# Altium schematic symbol library WR-PHD_Pin Header_1.27mm.SchLib: 31 symbols
Pins are listed as number, name and electrical type; pins without a type are passive.

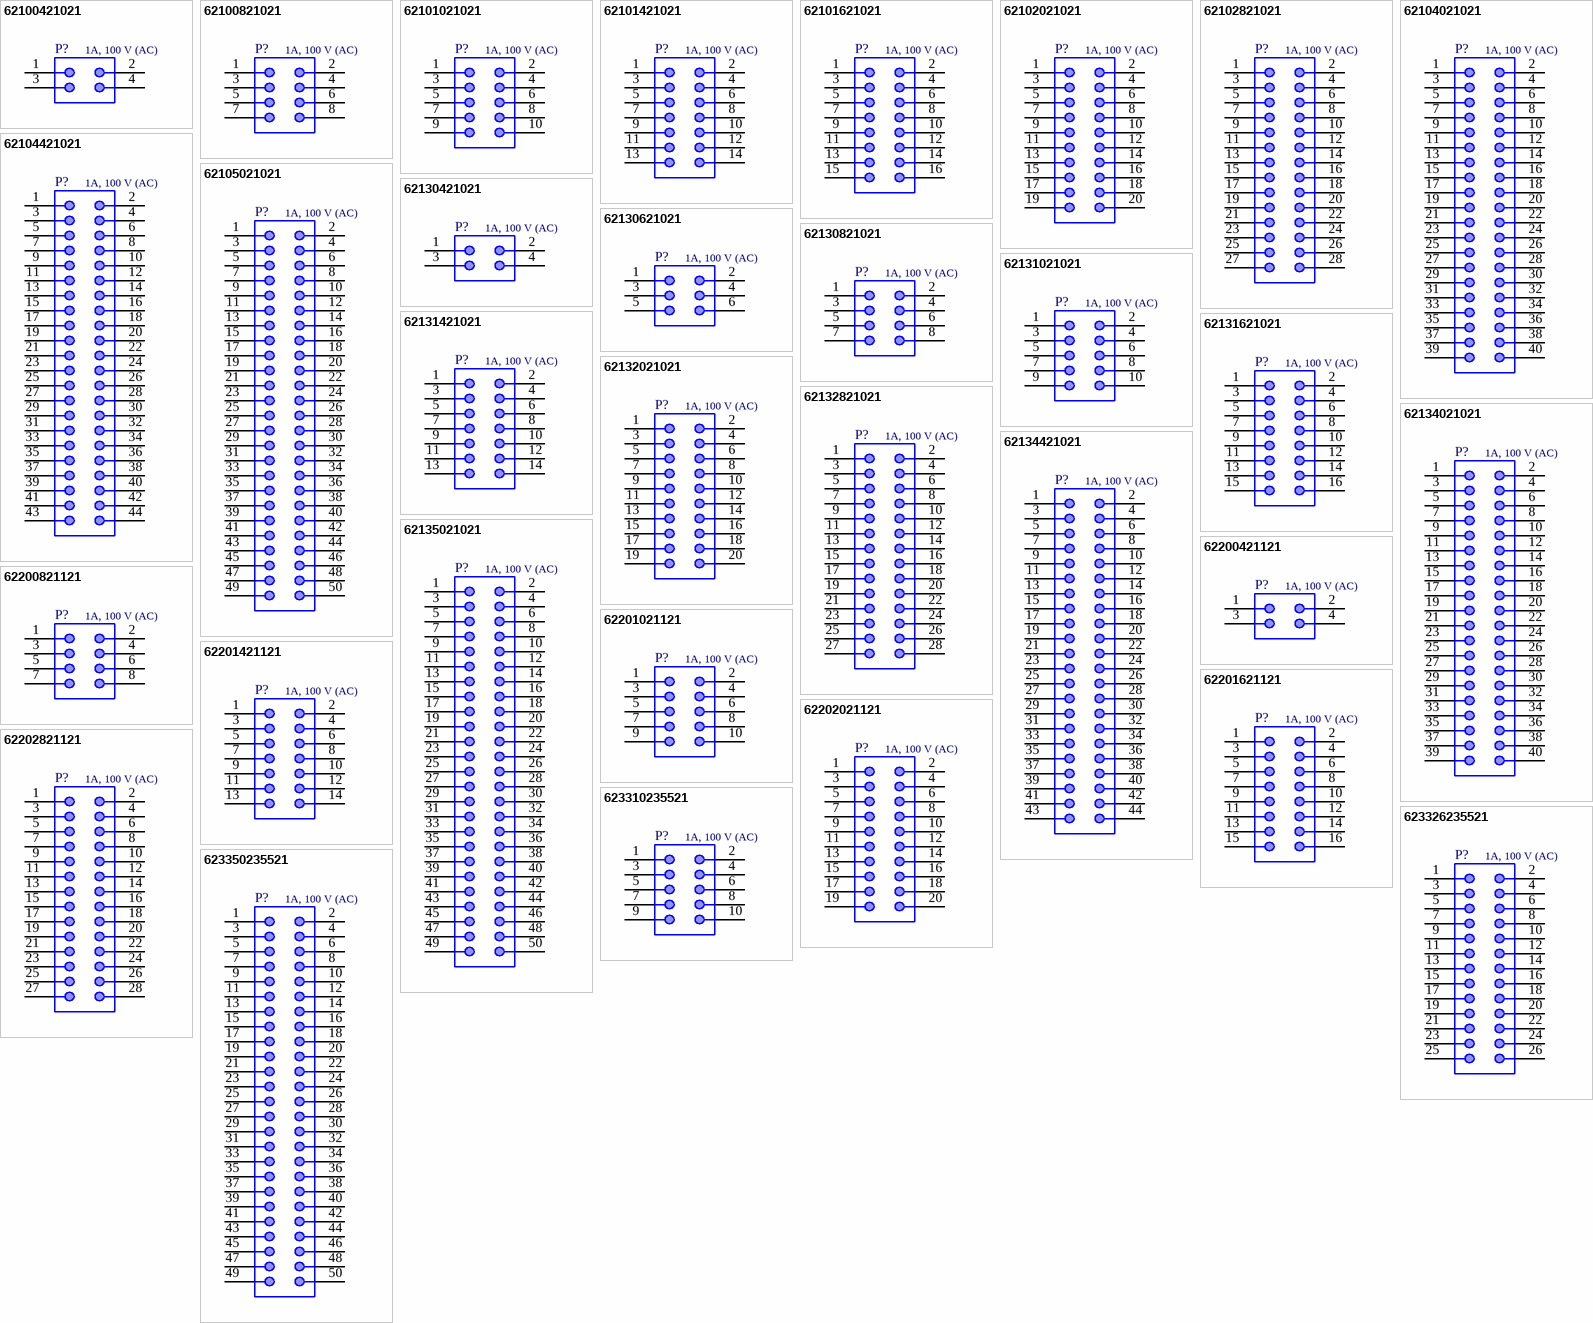
[diagram p0: symbols 62100421021 to 623350235521]

## 62100421021
designator P?, comment 1A, 100 V (AC)
WR-PHD Pin Header, SMT, pitch 1.27mm, Dual Row, Vertical, 4p; Manufacturer Part Number: 62100421021; Manufacturer: Wurth Elektronik; Pin Number: 4; Working Voltage: 100VAC; Withstanding Voltage: 500VAC; Contact Resistance: 20mOhm; ComponentLink1Description: Datasheet; ComponentLink1URL: https://www.we-online.com/catalog/datasheet/62100421021.pdf; Published Date: May 2020; Pitch: 1.27mm; Packaging: Tube; Gender: Pin Header; Rated Current: 1A; Row Number: Dual; Orientation: Vertical; Supplier 1 URL: N/A; Supplier 2 URL: N/A; Supplier 3 URL: N/A; LCSC Part #: N/A; Mount: SMD/SMT; Operating Temperature Max: + 105 C; Operating Temperature Min: - 40 C; Supplier 1: Mouser; Supplier 1 Part Number: N/A; Supplier 2: Digi-Key; Supplier 2 Part Number: N/A; Supplier 3: thegioiic; Supplier 3 Part Number: N/A; Value: 1A, 100 V (AC)
footprint 62100421021
pins: 1, 2, 3, 4

## 62100821021
designator P?, comment 1A, 100 V (AC)
WR-PHD Pin Header, SMT, pitch 1.27mm, Dual Row, Vertical, 8p; Manufacturer Part Number: 62100821021; Manufacturer: Wurth Elektronik; Pin Number: 8; Working Voltage: 100VAC; Withstanding Voltage: 500VAC; Contact Resistance: 20mOhm; ComponentLink1Description: Datasheet; ComponentLink1URL: https://www.we-online.com/catalog/datasheet/62100821021.pdf; Published Date: May 2020; Pitch: 1.27mm; Packaging: Tube; Gender: Pin Header; Rated Current: 1A; Row Number: Dual; Orientation: Vertical; Supplier 1 URL: N/A; Supplier 2 URL: N/A; Supplier 3 URL: N/A; LCSC Part #: N/A; Mount: SMD/SMT; Operating Temperature Max: + 105 C; Operating Temperature Min: - 40 C; Supplier 1: Mouser; Supplier 1 Part Number: N/A; Supplier 2: Digi-Key; Supplier 2 Part Number: N/A; Supplier 3: thegioiic; Supplier 3 Part Number: N/A; Value: 1A, 100 V (AC)
footprint 62100821021
pins: 1, 2, 3, 4, 5, 6, 7, 8

## 62101021021
designator P?, comment 1A, 100 V (AC)
WR-PHD Pin Header, SMT, pitch 1.27mm, Dual Row, Vertical, 10p; Manufacturer Part Number: 62101021021; Manufacturer: Wurth Elektronik; Pin Number: 10; Working Voltage: 100VAC; Withstanding Voltage: 500VAC; Contact Resistance: 20mOhm; ComponentLink1Description: Datasheet; ComponentLink1URL: https://www.we-online.com/catalog/datasheet/62101021021.pdf; Published Date: May 2020; Pitch: 1.27mm; Packaging: Tube; Gender: Pin Header; Rated Current: 1A; Row Number: Dual; Orientation: Vertical; Supplier 1 URL: N/A; Supplier 2 URL: N/A; Supplier 3 URL: N/A; LCSC Part #: N/A; Mount: SMD/SMT; Operating Temperature Max: + 105 C; Operating Temperature Min: - 40 C; Supplier 1: Mouser; Supplier 1 Part Number: N/A; Supplier 2: Digi-Key; Supplier 2 Part Number: N/A; Supplier 3: thegioiic; Supplier 3 Part Number: N/A; Value: 1A, 100 V (AC)
footprint 62101021021
pins: 1, 2, 3, 4, 5, 6, 7, 8, 9, 10

## 62101421021
designator P?, comment 1A, 100 V (AC)
WR-PHD Pin Header, SMT, pitch 1.27mm, Dual Row, Vertical, 14p; Manufacturer Part Number: 62101421021; Manufacturer: Wurth Elektronik; Pin Number: 14; Working Voltage: 100VAC; Withstanding Voltage: 500VAC; Contact Resistance: 20mOhm; ComponentLink1Description: Datasheet; ComponentLink1URL: https://www.we-online.com/catalog/datasheet/62101421021.pdf; Published Date: May 2020; Pitch: 1.27mm; Packaging: Tube; Gender: Pin Header; Rated Current: 1A; Row Number: Dual; Orientation: Vertical; Supplier 1 URL: N/A; Supplier 2 URL: N/A; Supplier 3 URL: N/A; LCSC Part #: N/A; Mount: SMD/SMT; Operating Temperature Max: + 105 C; Operating Temperature Min: - 40 C; Supplier 1: Mouser; Supplier 1 Part Number: N/A; Supplier 2: Digi-Key; Supplier 2 Part Number: N/A; Supplier 3: thegioiic; Supplier 3 Part Number: N/A; Value: 1A, 100 V (AC)
footprint 62101421021
pins: 1, 2, 3, 4, 5, 6, 7, 8, 9, 10, 11, 12, 13, 14

## 62101621021
designator P?, comment 1A, 100 V (AC)
WR-PHD Pin Header, SMT, pitch 1.27mm, Dual Row, Vertical, 16p; Manufacturer Part Number: 62101621021; Manufacturer: Wurth Elektronik; Pin Number: 16; Working Voltage: 100VAC; Withstanding Voltage: 500VAC; Contact Resistance: 20mOhm; ComponentLink1Description: Datasheet; ComponentLink1URL: https://www.we-online.com/catalog/datasheet/62101621021.pdf; Published Date: May 2020; Pitch: 1.27mm; Packaging: Tube; Gender: Pin Header; Rated Current: 1A; Row Number: Dual; Orientation: Vertical; Supplier 1 URL: N/A; Supplier 2 URL: N/A; Supplier 3 URL: N/A; LCSC Part #: N/A; Mount: SMD/SMT; Operating Temperature Max: + 105 C; Operating Temperature Min: - 40 C; Supplier 1: Mouser; Supplier 1 Part Number: N/A; Supplier 2: Digi-Key; Supplier 2 Part Number: N/A; Supplier 3: thegioiic; Supplier 3 Part Number: N/A; Value: 1A, 100 V (AC)
footprint 62101621021
pins: 1, 2, 3, 4, 5, 6, 7, 8, 9, 10, 11, 12, 13, 14, 15, 16

## 62102021021
designator P?, comment 1A, 100 V (AC)
WR-PHD Pin Header, SMT, pitch 1.27mm, Dual Row, Vertical, 20p; Manufacturer Part Number: 62102021021; Manufacturer: Wurth Elektronik; Pin Number: 20; Working Voltage: 100VAC; Withstanding Voltage: 500VAC; Contact Resistance: 20mOhm; ComponentLink1Description: Datasheet; ComponentLink1URL: https://www.we-online.com/catalog/datasheet/62102021021.pdf; Published Date: May 2020; Pitch: 1.27mm; Packaging: Tube; Gender: Pin Header; Rated Current: 1A; Row Number: Dual; Orientation: Vertical; Supplier 1 URL: N/A; Supplier 2 URL: N/A; Supplier 3 URL: N/A; LCSC Part #: N/A; Mount: SMD/SMT; Operating Temperature Max: + 105 C; Operating Temperature Min: - 40 C; Supplier 1: Mouser; Supplier 1 Part Number: N/A; Supplier 2: Digi-Key; Supplier 2 Part Number: N/A; Supplier 3: thegioiic; Supplier 3 Part Number: N/A; Value: 1A, 100 V (AC)
footprint 62102021021
pins: 1, 2, 3, 4, 5, 6, 7, 8, 9, 10, 11, 12, 13, 14, 15, 16, 17, 18, 19, 20

## 62102821021
designator P?, comment 1A, 100 V (AC)
WR-PHD Pin Header, SMT, pitch 1.27mm, Dual Row, Vertical, 28p; Manufacturer Part Number: 62102821021; Manufacturer: Wurth Elektronik; Pin Number: 28; Working Voltage: 100VAC; Withstanding Voltage: 500VAC; Contact Resistance: 20mOhm; ComponentLink1Description: Datasheet; ComponentLink1URL: https://www.we-online.com/catalog/datasheet/62102821021.pdf; Published Date: May 2020; Pitch: 1.27mm; Packaging: Tube; Gender: Pin Header; Rated Current: 1A; Row Number: Dual; Orientation: Vertical; Supplier 1 URL: N/A; Supplier 2 URL: N/A; Supplier 3 URL: N/A; LCSC Part #: N/A; Mount: SMD/SMT; Operating Temperature Max: + 105 C; Operating Temperature Min: - 40 C; Supplier 1: Mouser; Supplier 1 Part Number: N/A; Supplier 2: Digi-Key; Supplier 2 Part Number: N/A; Supplier 3: thegioiic; Supplier 3 Part Number: N/A; Value: 1A, 100 V (AC)
footprint 62102821021
pins: 1, 2, 3, 4, 5, 6, 7, 8, 9, 10, 11, 12, 13, 14, 15, 16, 17, 18, 19, 20, 21, 22, 23, 24, 25, 26, 27, 28

## 62104021021
designator P?, comment 1A, 100 V (AC)
WR-PHD Pin Header, SMT, pitch 1.27mm, Dual Row, Vertical, 40p; Manufacturer Part Number: 62104021021; Manufacturer: Wurth Elektronik; Pin Number: 40; Working Voltage: 100VAC; Withstanding Voltage: 500VAC; Contact Resistance: 20mOhm; ComponentLink1Description: Datasheet; ComponentLink1URL: https://www.we-online.com/catalog/datasheet/62104021021.pdf; Published Date: May 2020; Pitch: 1.27mm; Packaging: Tube; Gender: Pin Header; Rated Current: 1A; Row Number: Dual; Orientation: Vertical; Supplier 1 URL: N/A; Supplier 2 URL: N/A; Supplier 3 URL: N/A; LCSC Part #: N/A; Mount: SMD/SMT; Operating Temperature Max: + 105 C; Operating Temperature Min: - 40 C; Supplier 1: Mouser; Supplier 1 Part Number: N/A; Supplier 2: Digi-Key; Supplier 2 Part Number: N/A; Supplier 3: thegioiic; Supplier 3 Part Number: N/A; Value: 1A, 100 V (AC)
footprint 62104021021
pins: 1, 2, 3, 4, 5, 6, 7, 8, 9, 10, 11, 12, 13, 14, 15, 16, 17, 18, 19, 20, 21, 22, 23, 24, 25, 26, 27, 28, 29, 30, 31, 32, 33, 34, 35, 36, 37, 38, 39, 40

## 62104421021
designator P?, comment 1A, 100 V (AC)
WR-PHD Pin Header, SMT, pitch 1.27mm, Dual Row, Vertical, 44p; Manufacturer Part Number: 62104421021; Manufacturer: Wurth Elektronik; Pin Number: 44; Working Voltage: 100VAC; Withstanding Voltage: 500VAC; Contact Resistance: 20mOhm; ComponentLink1Description: Datasheet; ComponentLink1URL: https://www.we-online.com/catalog/datasheet/62104421021.pdf; Published Date: May 2020; Pitch: 1.27mm; Packaging: Tube; Gender: Pin Header; Rated Current: 1A; Row Number: Dual; Orientation: Vertical; Supplier 1 URL: N/A; Supplier 2 URL: N/A; Supplier 3 URL: N/A; LCSC Part #: N/A; Mount: SMD/SMT; Operating Temperature Max: + 105 C; Operating Temperature Min: - 40 C; Supplier 1: Mouser; Supplier 1 Part Number: N/A; Supplier 2: Digi-Key; Supplier 2 Part Number: N/A; Supplier 3: thegioiic; Supplier 3 Part Number: N/A; Value: 1A, 100 V (AC)
footprint 62104421021
pins: 1, 2, 3, 4, 5, 6, 7, 8, 9, 10, 11, 12, 13, 14, 15, 16, 17, 18, 19, 20, 21, 22, 23, 24, 25, 26, 27, 28, 29, 30, 31, 32, 33, 34, 35, 36, 37, 38, 39, 40, 41, 42, 43, 44

## 62105021021
designator P?, comment 1A, 100 V (AC)
WR-PHD Pin Header, SMT, pitch 1.27mm, Dual Row, Vertical, 50p; Manufacturer Part Number: 62105021021; Manufacturer: Wurth Elektronik; Pin Number: 50; Working Voltage: 100VAC; Withstanding Voltage: 500VAC; Contact Resistance: 20mOhm; ComponentLink1Description: Datasheet; ComponentLink1URL: https://www.we-online.com/catalog/datasheet/62105021021.pdf; Published Date: May 2020; Pitch: 1.27mm; Packaging: Tube; Gender: Pin Header; Rated Current: 1A; Row Number: Dual; Orientation: Vertical; Supplier 1 URL: N/A; Supplier 2 URL: N/A; Supplier 3 URL: N/A; LCSC Part #: N/A; Mount: SMD/SMT; Operating Temperature Max: + 105 C; Operating Temperature Min: - 40 C; Supplier 1: Mouser; Supplier 1 Part Number: N/A; Supplier 2: Digi-Key; Supplier 2 Part Number: N/A; Supplier 3: thegioiic; Supplier 3 Part Number: N/A; Value: 1A, 100 V (AC)
footprint 62105021021
pins: 1, 2, 3, 4, 5, 6, 7, 8, 9, 10, 11, 12, 13, 14, 15, 16, 17, 18, 19, 20, 21, 22, 23, 24, 25, 26, 27, 28, 29, 30, 31, 32, 33, 34, 35, 36, 37, 38, 39, 40, 41, 42, 43, 44, 45, 46, 47, 48, 49, 50

## 62130421021
designator P?, comment 1A, 100 V (AC)
WR-PHD Pin Header, SMT, pitch 1.27mm, Dual Row, Vertical, 4p; Manufacturer Part Number: 62130421021; Manufacturer: Wurth Elektronik; Pin Number: 4; Working Voltage: 100VAC; Withstanding Voltage: 500VAC; Contact Resistance: 20mOhm; ComponentLink1Description: Datasheet; ComponentLink1URL: https://www.we-online.com/catalog/datasheet/62130421021.pdf; Published Date: May 2020; Pitch: 1.27mm; Packaging: Tape and Reel; Gender: Pin Header; Rated Current: 1A; Row Number: Dual; Orientation: Vertical; Supplier 1 URL: N/A; Supplier 2 URL: N/A; Supplier 3 URL: N/A; LCSC Part #: N/A; Mount: SMD/SMT; Operating Temperature Max: + 105 C; Operating Temperature Min: - 40 C; Supplier 1: Mouser; Supplier 1 Part Number: N/A; Supplier 2: Digi-Key; Supplier 2 Part Number: N/A; Supplier 3: thegioiic; Supplier 3 Part Number: N/A; Value: 1A, 100 V (AC)
footprint 62130421021
pins: 1, 2, 3, 4

## 62130621021
designator P?, comment 1A, 100 V (AC)
WR-PHD Pin Header, SMT, pitch 1.27mm, Dual Row, Vertical, 6p; Manufacturer Part Number: 62130621021; Manufacturer: Wurth Elektronik; Pin Number: 6; Working Voltage: 100VAC; Withstanding Voltage: 500VAC; Contact Resistance: 20mOhm; ComponentLink1Description: Datasheet; ComponentLink1URL: https://www.we-online.com/catalog/datasheet/62130621021.pdf; Published Date: May 2020; Pitch: 1.27mm; Packaging: Tape and Reel; Gender: Pin Header; Rated Current: 1A; Row Number: Dual; Orientation: Vertical; Supplier 1 URL: N/A; Supplier 2 URL: N/A; Supplier 3 URL: N/A; LCSC Part #: N/A; Mount: SMD/SMT; Operating Temperature Max: + 105 C; Operating Temperature Min: - 40 C; Supplier 1: Mouser; Supplier 1 Part Number: N/A; Supplier 2: Digi-Key; Supplier 2 Part Number: N/A; Supplier 3: thegioiic; Supplier 3 Part Number: N/A; Value: 1A, 100 V (AC)
footprint 62130621021
pins: 1, 2, 3, 4, 5, 6

## 62130821021
designator P?, comment 1A, 100 V (AC)
WR-PHD Pin Header, SMT, pitch 1.27mm, Dual Row, Vertical, 8p; Manufacturer Part Number: 62130821021; Manufacturer: Wurth Elektronik; Pin Number: 8; Working Voltage: 100VAC; Withstanding Voltage: 500VAC; Contact Resistance: 20mOhm; ComponentLink1Description: Datasheet; ComponentLink1URL: https://www.we-online.com/catalog/datasheet/62130821021.pdf; Published Date: May 2020; Pitch: 1.27mm; Packaging: Tape and Reel; Gender: Pin Header; Rated Current: 1A; Row Number: Dual; Orientation: Vertical; Supplier 1 URL: N/A; Supplier 2 URL: N/A; Supplier 3 URL: N/A; LCSC Part #: N/A; Mount: SMD/SMT; Operating Temperature Max: + 105 C; Operating Temperature Min: - 40 C; Supplier 1: Mouser; Supplier 1 Part Number: N/A; Supplier 2: Digi-Key; Supplier 2 Part Number: N/A; Supplier 3: thegioiic; Supplier 3 Part Number: N/A; Value: 1A, 100 V (AC)
footprint 62130821021
pins: 1, 2, 3, 4, 5, 6, 7, 8

## 62131021021
designator P?, comment 1A, 100 V (AC)
WR-PHD Pin Header, SMT, pitch 1.27mm, Dual Row, Vertical, 10p; Manufacturer Part Number: 62131021021; Manufacturer: Wurth Elektronik; Pin Number: 10; Working Voltage: 100VAC; Withstanding Voltage: 500VAC; Contact Resistance: 20mOhm; ComponentLink1Description: Datasheet; ComponentLink1URL: https://www.we-online.com/catalog/datasheet/62131021021.pdf; Published Date: May 2020; Pitch: 1.27mm; Packaging: Tape and Reel; Gender: Pin Header; Rated Current: 1A; Row Number: Dual; Orientation: Vertical; Supplier 1 URL: N/A; Supplier 2 URL: N/A; Supplier 3 URL: N/A; LCSC Part #: N/A; Mount: SMD/SMT; Operating Temperature Max: + 105 C; Operating Temperature Min: - 40 C; Supplier 1: Mouser; Supplier 1 Part Number: N/A; Supplier 2: Digi-Key; Supplier 2 Part Number: N/A; Supplier 3: thegioiic; Supplier 3 Part Number: N/A; Value: 1A, 100 V (AC)
footprint 62131021021
pins: 1, 2, 3, 4, 5, 6, 7, 8, 9, 10

## 62131421021
designator P?, comment 1A, 100 V (AC)
WR-PHD Pin Header, SMT, pitch 1.27mm, Dual Row, Vertical, 14p; Manufacturer Part Number: 62131421021; Manufacturer: Wurth Elektronik; Pin Number: 14; Working Voltage: 100VAC; Withstanding Voltage: 500VAC; Contact Resistance: 20mOhm; ComponentLink1Description: Datasheet; ComponentLink1URL: https://www.we-online.com/catalog/datasheet/62131421021.pdf; Published Date: May 2020; Pitch: 1.27mm; Packaging: Tape and Reel; Gender: Pin Header; Rated Current: 1A; Row Number: Dual; Orientation: Vertical; Supplier 1 URL: N/A; Supplier 2 URL: N/A; Supplier 3 URL: N/A; LCSC Part #: N/A; Mount: SMD/SMT; Operating Temperature Max: + 105 C; Operating Temperature Min: - 40 C; Supplier 1: Mouser; Supplier 1 Part Number: N/A; Supplier 2: Digi-Key; Supplier 2 Part Number: N/A; Supplier 3: thegioiic; Supplier 3 Part Number: N/A; Value: 1A, 100 V (AC)
footprint 62131421021
pins: 1, 2, 3, 4, 5, 6, 7, 8, 9, 10, 11, 12, 13, 14

## 62131621021
designator P?, comment 1A, 100 V (AC)
WR-PHD Pin Header, SMT, pitch 1.27mm, Dual Row, Vertical, 16p; Manufacturer Part Number: 62131621021; Manufacturer: Wurth Elektronik; Pin Number: 16; Working Voltage: 100VAC; Withstanding Voltage: 500VAC; Contact Resistance: 20mOhm; ComponentLink1Description: Datasheet; ComponentLink1URL: https://www.we-online.com/catalog/datasheet/62131621021.pdf; Published Date: May 2020; Pitch: 1.27mm; Packaging: Tape and Reel; Gender: Pin Header; Rated Current: 1A; Row Number: Dual; Orientation: Vertical; Supplier 1 URL: N/A; Supplier 2 URL: N/A; Supplier 3 URL: N/A; LCSC Part #: N/A; Mount: SMD/SMT; Operating Temperature Max: + 105 C; Operating Temperature Min: - 40 C; Supplier 1: Mouser; Supplier 1 Part Number: N/A; Supplier 2: Digi-Key; Supplier 2 Part Number: N/A; Supplier 3: thegioiic; Supplier 3 Part Number: N/A; Value: 1A, 100 V (AC)
footprint 62131621021
pins: 1, 2, 3, 4, 5, 6, 7, 8, 9, 10, 11, 12, 13, 14, 15, 16

## 62132021021
designator P?, comment 1A, 100 V (AC)
WR-PHD Pin Header, SMT, pitch 1.27mm, Dual Row, Vertical, 20p; Manufacturer Part Number: 62132021021; Manufacturer: Wurth Elektronik; Pin Number: 20; Working Voltage: 100VAC; Withstanding Voltage: 500VAC; Contact Resistance: 20mOhm; ComponentLink1Description: Datasheet; ComponentLink1URL: https://www.we-online.com/catalog/datasheet/62132021021.pdf; Published Date: May 2020; Pitch: 1.27mm; Packaging: Tape and Reel; Gender: Pin Header; Rated Current: 1A; Row Number: Dual; Orientation: Vertical; Supplier 1 URL: N/A; Supplier 2 URL: N/A; Supplier 3 URL: N/A; LCSC Part #: N/A; Mount: SMD/SMT; Operating Temperature Max: + 105 C; Operating Temperature Min: - 40 C; Supplier 1: Mouser; Supplier 1 Part Number: N/A; Supplier 2: Digi-Key; Supplier 2 Part Number: N/A; Supplier 3: thegioiic; Supplier 3 Part Number: N/A; Value: 1A, 100 V (AC)
footprint 62132021021
pins: 1, 2, 3, 4, 5, 6, 7, 8, 9, 10, 11, 12, 13, 14, 15, 16, 17, 18, 19, 20

## 62132821021
designator P?, comment 1A, 100 V (AC)
WR-PHD Pin Header, SMT, pitch 1.27mm, Dual Row, Vertical, 28p; Manufacturer Part Number: 62132821021; Manufacturer: Wurth Elektronik; Pin Number: 28; Working Voltage: 100VAC; Withstanding Voltage: 500VAC; Contact Resistance: 20mOhm; ComponentLink1Description: Datasheet; ComponentLink1URL: https://www.we-online.com/catalog/datasheet/62132821021.pdf; Published Date: May 2020; Pitch: 1.27mm; Packaging: Tape and Reel; Gender: Pin Header; Rated Current: 1A; Row Number: Dual; Orientation: Vertical; Supplier 1 URL: N/A; Supplier 2 URL: N/A; Supplier 3 URL: N/A; LCSC Part #: N/A; Mount: SMD/SMT; Operating Temperature Max: + 105 C; Operating Temperature Min: - 40 C; Supplier 1: Mouser; Supplier 1 Part Number: N/A; Supplier 2: Digi-Key; Supplier 2 Part Number: N/A; Supplier 3: thegioiic; Supplier 3 Part Number: N/A; Value: 1A, 100 V (AC)
footprint 62132821021
pins: 1, 2, 3, 4, 5, 6, 7, 8, 9, 10, 11, 12, 13, 14, 15, 16, 17, 18, 19, 20, 21, 22, 23, 24, 25, 26, 27, 28

## 62134021021
designator P?, comment 1A, 100 V (AC)
WR-PHD Pin Header, SMT, pitch 1.27mm, Dual Row, Vertical, 40p; Manufacturer Part Number: 62134021021; Manufacturer: Wurth Elektronik; Pin Number: 40; Working Voltage: 100VAC; Withstanding Voltage: 500VAC; Contact Resistance: 20mOhm; ComponentLink1Description: Datasheet; ComponentLink1URL: https://www.we-online.com/catalog/datasheet/62134021021.pdf; Published Date: May 2020; Pitch: 1.27mm; Packaging: Tape and Reel; Gender: Pin Header; Rated Current: 1A; Row Number: Dual; Orientation: Vertical; Supplier 1 URL: N/A; Supplier 2 URL: N/A; Supplier 3 URL: N/A; LCSC Part #: N/A; Mount: SMD/SMT; Operating Temperature Max: + 105 C; Operating Temperature Min: - 40 C; Supplier 1: Mouser; Supplier 1 Part Number: N/A; Supplier 2: Digi-Key; Supplier 2 Part Number: N/A; Supplier 3: thegioiic; Supplier 3 Part Number: N/A; Value: 1A, 100 V (AC)
footprint 62134021021
pins: 1, 2, 3, 4, 5, 6, 7, 8, 9, 10, 11, 12, 13, 14, 15, 16, 17, 18, 19, 20, 21, 22, 23, 24, 25, 26, 27, 28, 29, 30, 31, 32, 33, 34, 35, 36, 37, 38, 39, 40

## 62134421021
designator P?, comment 1A, 100 V (AC)
WR-PHD Pin Header, SMT, pitch 1.27mm, Dual Row, Vertical, 44p; Manufacturer Part Number: 62134421021; Manufacturer: Wurth Elektronik; Pin Number: 44; Working Voltage: 100VAC; Withstanding Voltage: 500VAC; Contact Resistance: 20mOhm; ComponentLink1Description: Datasheet; ComponentLink1URL: https://www.we-online.com/catalog/datasheet/62134421021.pdf; Published Date: May 2020; Pitch: 1.27mm; Packaging: Tape and Reel; Gender: Pin Header; Rated Current: 1A; Row Number: Dual; Orientation: Vertical; Supplier 1 URL: N/A; Supplier 2 URL: N/A; Supplier 3 URL: N/A; LCSC Part #: N/A; Mount: SMD/SMT; Operating Temperature Max: + 105 C; Operating Temperature Min: - 40 C; Supplier 1: Mouser; Supplier 1 Part Number: N/A; Supplier 2: Digi-Key; Supplier 2 Part Number: N/A; Supplier 3: thegioiic; Supplier 3 Part Number: N/A; Value: 1A, 100 V (AC)
footprint 62134421021
pins: 1, 2, 3, 4, 5, 6, 7, 8, 9, 10, 11, 12, 13, 14, 15, 16, 17, 18, 19, 20, 21, 22, 23, 24, 25, 26, 27, 28, 29, 30, 31, 32, 33, 34, 35, 36, 37, 38, 39, 40, 41, 42, 43, 44

## 62135021021
designator P?, comment 1A, 100 V (AC)
WR-PHD Pin Header, SMT, pitch 1.27mm, Dual Row, Vertical, 50p; Manufacturer Part Number: 62135021021; Manufacturer: Wurth Elektronik; Pin Number: 50; Working Voltage: 100VAC; Withstanding Voltage: 500VAC; Contact Resistance: 20mOhm; ComponentLink1Description: Datasheet; ComponentLink1URL: https://www.we-online.com/catalog/datasheet/62135021021.pdf; Published Date: May 2020; Pitch: 1.27mm; Packaging: Tape and Reel; Gender: Pin Header; Rated Current: 1A; Row Number: Dual; Orientation: Vertical; Supplier 1 URL: N/A; Supplier 2 URL: N/A; Supplier 3 URL: N/A; LCSC Part #: N/A; Mount: SMD/SMT; Operating Temperature Max: + 105 C; Operating Temperature Min: - 40 C; Supplier 1: Mouser; Supplier 1 Part Number: N/A; Supplier 2: Digi-Key; Supplier 2 Part Number: N/A; Supplier 3: thegioiic; Supplier 3 Part Number: N/A; Value: 1A, 100 V (AC)
footprint 62135021021
pins: 1, 2, 3, 4, 5, 6, 7, 8, 9, 10, 11, 12, 13, 14, 15, 16, 17, 18, 19, 20, 21, 22, 23, 24, 25, 26, 27, 28, 29, 30, 31, 32, 33, 34, 35, 36, 37, 38, 39, 40, 41, 42, 43, 44, 45, 46, 47, 48, 49, 50

## 62200421121
designator P?, comment 1A, 100 V (AC)
WR-PHD Pin Header, THT, pitch 1.27mm, Dual Row, Vertical, 4p; Manufacturer Part Number: 62200421121; Manufacturer: Wurth Elektronik; Pin Number: 4; Working Voltage: 100VAC; Withstanding Voltage: 500VAC; Contact Resistance: 20mOhm; ComponentLink1Description: Datasheet; ComponentLink1URL: https://www.we-online.com/catalog/datasheet/62200421121.pdf; Published Date: May 2020; Pitch: 1.27mm; Packaging: Box; Gender: Pin Header; Rated Current: 1A; Row Number: Dual; Orientation: Vertical; Supplier 1 URL: N/A; Supplier 2 URL: N/A; Supplier 3 URL: N/A; LCSC Part #: N/A; Mount: SMD/SMT; Operating Temperature Max: + 105 C; Operating Temperature Min: - 40 C; Supplier 1: Mouser; Supplier 1 Part Number: N/A; Supplier 2: Digi-Key; Supplier 2 Part Number: N/A; Supplier 3: thegioiic; Supplier 3 Part Number: N/A; Value: 1A, 100 V (AC)
footprint 62200421121
pins: 1, 2, 3, 4

## 62200821121
designator P?, comment 1A, 100 V (AC)
WR-PHD Pin Header, THT, pitch 1.27mm, Dual Row, Vertical, 8p; Manufacturer Part Number: 62200821121; Manufacturer: Wurth Elektronik; Pin Number: 8; Working Voltage: 100VAC; Withstanding Voltage: 500VAC; Contact Resistance: 20mOhm; ComponentLink1Description: Datasheet; ComponentLink1URL: https://www.we-online.com/catalog/datasheet/62200821121.pdf; Published Date: May 2020; Pitch: 1.27mm; Packaging: Box; Gender: Pin Header; Rated Current: 1A; Row Number: Dual; Orientation: Vertical; Supplier 1 URL: N/A; Supplier 2 URL: N/A; Supplier 3 URL: N/A; LCSC Part #: N/A; Mount: SMD/SMT; Operating Temperature Max: + 105 C; Operating Temperature Min: - 40 C; Supplier 1: Mouser; Supplier 1 Part Number: N/A; Supplier 2: Digi-Key; Supplier 2 Part Number: N/A; Supplier 3: thegioiic; Supplier 3 Part Number: N/A; Value: 1A, 100 V (AC)
footprint 62200821121
pins: 1, 2, 3, 4, 5, 6, 7, 8

## 62201021121
designator P?, comment 1A, 100 V (AC)
WR-PHD Pin Header, THT, pitch 1.27mm, Dual Row, Vertical, 10p; Manufacturer Part Number: 62201021121; Manufacturer: Wurth Elektronik; Pin Number: 10; Working Voltage: 100VAC; Withstanding Voltage: 500VAC; Contact Resistance: 20mOhm; ComponentLink1Description: Datasheet; ComponentLink1URL: https://www.we-online.com/catalog/datasheet/62201021121.pdf; Published Date: May 2020; Pitch: 1.27mm; Packaging: Box; Gender: Pin Header; Rated Current: 1A; Row Number: Dual; Orientation: Vertical; Supplier 1 URL: N/A; Supplier 2 URL: N/A; Supplier 3 URL: N/A; LCSC Part #: N/A; Mount: SMD/SMT; Operating Temperature Max: + 105 C; Operating Temperature Min: - 40 C; Supplier 1: Mouser; Supplier 1 Part Number: N/A; Supplier 2: Digi-Key; Supplier 2 Part Number: N/A; Supplier 3: thegioiic; Supplier 3 Part Number: N/A; Value: 1A, 100 V (AC)
footprint 62201021121
pins: 1, 2, 3, 4, 5, 6, 7, 8, 9, 10

## 62201421121
designator P?, comment 1A, 100 V (AC)
WR-PHD Pin Header, THT, pitch 1.27mm, Dual Row, Vertical, 14p; Manufacturer Part Number: 62201421121; Manufacturer: Wurth Elektronik; Pin Number: 14; Working Voltage: 100VAC; Withstanding Voltage: 500VAC; Contact Resistance: 20mOhm; ComponentLink1Description: Datasheet; ComponentLink1URL: https://www.we-online.com/catalog/datasheet/62201421121.pdf; Published Date: May 2020; Pitch: 1.27mm; Packaging: Box; Gender: Pin Header; Rated Current: 1A; Row Number: Dual; Orientation: Vertical; Supplier 1 URL: N/A; Supplier 2 URL: N/A; Supplier 3 URL: N/A; LCSC Part #: N/A; Mount: SMD/SMT; Operating Temperature Max: + 105 C; Operating Temperature Min: - 40 C; Supplier 1: Mouser; Supplier 1 Part Number: N/A; Supplier 2: Digi-Key; Supplier 2 Part Number: N/A; Supplier 3: thegioiic; Supplier 3 Part Number: N/A; Value: 1A, 100 V (AC)
footprint 62201421121
pins: 1, 2, 3, 4, 5, 6, 7, 8, 9, 10, 11, 12, 13, 14

## 62201621121
designator P?, comment 1A, 100 V (AC)
WR-PHD Pin Header, THT, pitch 1.27mm, Dual Row, Vertical, 16p; Manufacturer Part Number: 62201621121; Manufacturer: Wurth Elektronik; Pin Number: 16; Working Voltage: 100VAC; Withstanding Voltage: 500VAC; Contact Resistance: 20mOhm; ComponentLink1Description: Datasheet; ComponentLink1URL: https://www.we-online.com/catalog/datasheet/62201621121.pdf; Published Date: May 2020; Pitch: 1.27mm; Packaging: Box; Gender: Pin Header; Rated Current: 1A; Row Number: Dual; Orientation: Vertical; Supplier 1 URL: https://www.mouser.vn/ProductDetail/Wurth-Elektronik/62201621121?qs=PhR8RmCirEZeW7yNjeLlUA%3D%3D; Supplier 2 URL: N/A; Supplier 3 URL: N/A; LCSC Part #: N/A; Mount: SMD/SMT; Operating Temperature Max: + 105 C; Operating Temperature Min: - 40 C; Supplier 1: Mouser; Supplier 1 Part Number: 710-62201621121; Supplier 2: Digi-Key; Supplier 2 Part Number: N/A; Supplier 3: thegioiic; Supplier 3 Part Number: N/A; Value: 1A, 100 V (AC)
footprint 62201621121
pins: 1, 2, 3, 4, 5, 6, 7, 8, 9, 10, 11, 12, 13, 14, 15, 16

## 62202021121
designator P?, comment 1A, 100 V (AC)
WR-PHD Pin Header, THT, pitch 1.27mm, Dual Row, Vertical, 20p; Manufacturer Part Number: 62202021121; Manufacturer: Wurth Elektronik; Pin Number: 20; Working Voltage: 100VAC; Withstanding Voltage: 500VAC; Contact Resistance: 20mOhm; ComponentLink1Description: Datasheet; ComponentLink1URL: https://www.we-online.com/catalog/datasheet/62202021121.pdf; Published Date: May 2020; Pitch: 1.27mm; Packaging: Box; Gender: Pin Header; Rated Current: 1A; Row Number: Dual; Orientation: Vertical; Supplier 1 URL: https://www.mouser.vn/ProductDetail/Wurth-Elektronik/62202021121?qs=PhR8RmCirEbogMhXhXGKJg%3D%3D; Supplier 2 URL: N/A; Supplier 3 URL: N/A; LCSC Part #: N/A; Mount: SMD/SMT; Operating Temperature Max: + 105 C; Operating Temperature Min: - 40 C; Supplier 1: Mouser; Supplier 1 Part Number: 710-62202021121; Supplier 2: Digi-Key; Supplier 2 Part Number: N/A; Supplier 3: thegioiic; Supplier 3 Part Number: N/A; Value: 1A, 100 V (AC)
footprint 62202021121
pins: 1, 2, 3, 4, 5, 6, 7, 8, 9, 10, 11, 12, 13, 14, 15, 16, 17, 18, 19, 20

## 62202821121
designator P?, comment 1A, 100 V (AC)
WR-PHD Pin Header, THT, pitch 1.27mm, Dual Row, Vertical, 28p; Manufacturer Part Number: 62202821121; Manufacturer: Wurth Elektronik; Pin Number: 28; Working Voltage: 100VAC; Withstanding Voltage: 500VAC; Contact Resistance: 20mOhm; ComponentLink1Description: Datasheet; ComponentLink1URL: https://www.we-online.com/catalog/datasheet/62202821121.pdf; Published Date: May 2020; Pitch: 1.27mm; Packaging: Box; Gender: Pin Header; Rated Current: 1A; Row Number: Dual; Orientation: Vertical; Supplier 1 URL: https://www.mouser.vn/ProductDetail/Wurth-Elektronik/62202821121?qs=PhR8RmCirEZdV6FK9AV24Q%3D%3D; Supplier 2 URL: N/A; Supplier 3 URL: N/A; LCSC Part #: N/A; Mount: SMD/SMT; Operating Temperature Max: + 105 C; Operating Temperature Min: - 40 C; Supplier 1: Mouser; Supplier 1 Part Number: 710-62202821121; Supplier 2: Digi-Key; Supplier 2 Part Number: N/A; Supplier 3: thegioiic; Supplier 3 Part Number: N/A; Value: 1A, 100 V (AC)
footprint 62202821121
pins: 1, 2, 3, 4, 5, 6, 7, 8, 9, 10, 11, 12, 13, 14, 15, 16, 17, 18, 19, 20, 21, 22, 23, 24, 25, 26, 27, 28

## 623310235521
designator P?, comment 1A, 100 V (AC)
WR-PHD Pin Header, SMT, pitch 1.27mm, Dual Row, Vertical, 10p; Manufacturer Part Number: 623310235521; Manufacturer: Wurth Elektronik; Pin Number: 10; Working Voltage: 100VAC; Withstanding Voltage: 500VAC; Contact Resistance: 20mOhm; ComponentLink1Description: Datasheet; ComponentLink1URL: https://www.we-online.com/catalog/datasheet/623310235521.pdf; Published Date: May 2020; Pitch: 1.27mm; Packaging: Tape and Reel; Gender: Pin Header; Rated Current: 1A; Row Number: Dual; Orientation: Vertical; Supplier 1 URL: https://www.mouser.vn/ProductDetail/Wurth-Elektronik/623310235521?qs=7D1LtPJG0i1zDmahu1AyYA%3D%3D; Supplier 2 URL: N/A; Supplier 3 URL: N/A; LCSC Part #: N/A; Mount: SMD/SMT; Operating Temperature Max: + 105 C; Operating Temperature Min: - 40 C; Supplier 1: Mouser; Supplier 1 Part Number: 710-623310235521; Supplier 2: Digi-Key; Supplier 2 Part Number: N/A; Supplier 3: thegioiic; Supplier 3 Part Number: N/A; Value: 1A, 100 V (AC)
footprint 623310235521
pins: 1, 2, 3, 4, 5, 6, 7, 8, 9, 10

## 623326235521
designator P?, comment 1A, 100 V (AC)
WR-PHD Pin Header, SMT, pitch 1.27mm, Dual Row, Vertical, 26p; Manufacturer Part Number: 623326235521; Manufacturer: Wurth Elektronik; Pin Number: 26; Working Voltage: 100VAC; Withstanding Voltage: 500VAC; Contact Resistance: 20mOhm; ComponentLink1Description: Datasheet; ComponentLink1URL: https://www.we-online.com/catalog/datasheet/623326235521.pdf; Published Date: May 2020; Pitch: 1.27mm; Packaging: Tape and Reel; Gender: Pin Header; Rated Current: 1A; Row Number: Dual; Orientation: Vertical; Supplier 1 URL: https://www.mouser.vn/ProductDetail/Wurth-Elektronik/623326235521?qs=7D1LtPJG0i1rhjs7i9FTWg%3D%3D; Supplier 2 URL: N/A; Supplier 3 URL: N/A; LCSC Part #: N/A; Mount: SMD/SMT; Operating Temperature Max: + 105 C; Operating Temperature Min: - 40 C; Supplier 1: Mouser; Supplier 1 Part Number: 710-623326235521; Supplier 2: Digi-Key; Supplier 2 Part Number: N/A; Supplier 3: thegioiic; Supplier 3 Part Number: N/A; Value: 1A, 100 V (AC)
footprint 623326235521
pins: 1, 2, 3, 4, 5, 6, 7, 8, 9, 10, 11, 12, 13, 14, 15, 16, 17, 18, 19, 20, 21, 22, 23, 24, 25, 26

## 623350235521
designator P?, comment 1A, 100 V (AC)
WR-PHD Pin Header, SMT, pitch 1.27mm, Dual Row, Vertical, 50p; Manufacturer Part Number: 623350235521; Manufacturer: Wurth Elektronik; Pin Number: 50; Working Voltage: 100VAC; Withstanding Voltage: 500VAC; Contact Resistance: 20mOhm; ComponentLink1Description: Datasheet; ComponentLink1URL: https://www.we-online.com/catalog/datasheet/623350235521.pdf; Published Date: May 2020; Pitch: 1.27mm; Packaging: Tape and Reel; Gender: Pin Header; Rated Current: 1A; Row Number: Dual; Orientation: Vertical; Supplier 1 URL: https://www.mouser.vn/ProductDetail/Wurth-Elektronik/623350235521?qs=3RJ0PdSuLVmMxJgiENseLA%3D%3D; Supplier 2 URL: N/A; Supplier 3 URL: N/A; LCSC Part #: N/A; Mount: SMD/SMT; Operating Temperature Max: + 105 C; Operating Temperature Min: - 40 C; Supplier 1: Mouser; Supplier 1 Part Number: 710-623350235521; Supplier 2: Digi-Key; Supplier 2 Part Number: N/A; Supplier 3: thegioiic; Supplier 3 Part Number: N/A; Value: 1A, 100 V (AC)
footprint 623350235521
pins: 1, 2, 3, 4, 5, 6, 7, 8, 9, 10, 11, 12, 13, 14, 15, 16, 17, 18, 19, 20, 21, 22, 23, 24, 25, 26, 27, 28, 29, 30, 31, 32, 33, 34, 35, 36, 37, 38, 39, 40, 41, 42, 43, 44, 45, 46, 47, 48, 49, 50